# Altium footprint library SM_10-MSOP-EP.PcbLib: 1 footprints
Each footprint in its own frame and in the unit in brackets; x right, y up, seen from the top. Pads: shape width x height; smd on the part's side, far side on the other; paste and mask are expansions set on the pad; w line width, h text height; cw(c..) or ccw(c..) is an arc to the next point about the centre after c.
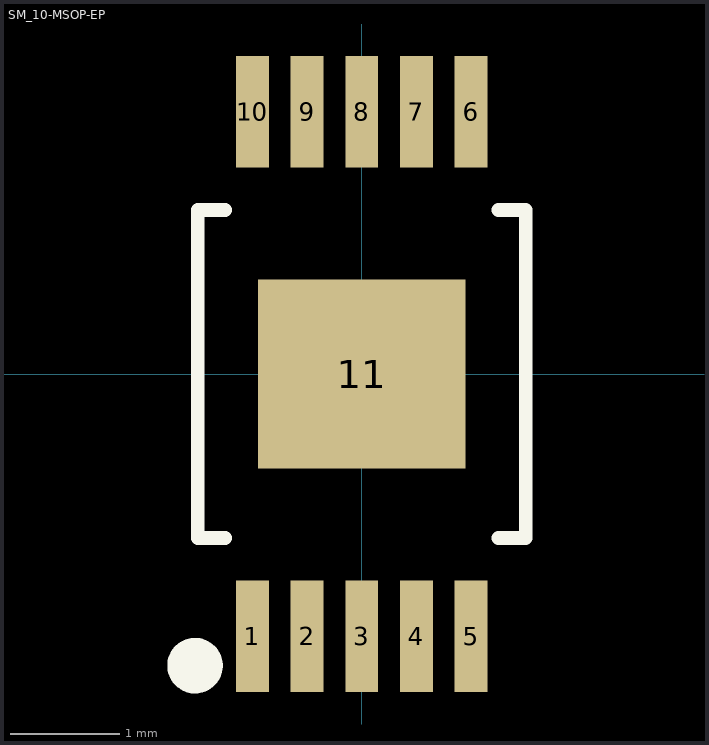
[diagram p0: the footprint, top view; thin cyan lines are the x and y axes]

## SM_10-MSOP-EP [mm]
height 0.86
pads (11):
  rect 0.3x1.02 smd mask+0.076: 1(-1,-2.4) 2(-0.5,-2.4) 3(0,-2.4) 4(0.5,-2.4) 5(1,-2.4) 6(1,2.4) 7(0.5,2.4) 8(0,2.4) 9(-0.5,2.4) 10(-1,2.4)
  rect 1.9x1.73 smd mask+0.076: 11(0,0)
Top Overlay:
  circle w0.254: c-1.524,-2.667 r0.127
  lines w0.127: -1.25,-1.5 -1.5,-1.5 -1.5,1.5 -1.25,1.5 ; 1.25,-1.5 1.5,-1.5 1.5,1.5 1.25,1.5
3D body: height 0.86, standoff 0.86, extent -1.256,-1.246 -0.756,-0.746
3D body: height 0.15, standoff 0, extent -1.12,1.5 -0.88,2.4
3D body: height 0.15, standoff 0, extent -0.62,1.5 -0.38,2.4
3D body: height 0.15, standoff 0, extent -0.12,1.5 0.12,2.4
3D body: height 0.15, standoff 0, extent 0.38,1.5 0.62,2.4
3D body: height 0.15, standoff 0, extent 0.88,1.5 1.12,2.4
3D body: height 0.15, standoff 0, extent 0.88,-2.4 1.12,-1.5
3D body: height 0.15, standoff 0, extent 0.38,-2.4 0.62,-1.5
3D body: height 0.15, standoff 0, extent -1.12,-2.4 -0.88,-1.5
3D body: height 0.15, standoff 0, extent -0.62,-2.4 -0.38,-1.5
3D body: height 0.15, standoff 0, extent -0.12,-2.4 0.12,-1.5
3D body: height 0.86, standoff 0, extent -1.5,-1.5 1.5,1.5